# EAGLE library part ADC083000 (library NaSem_ADCs)
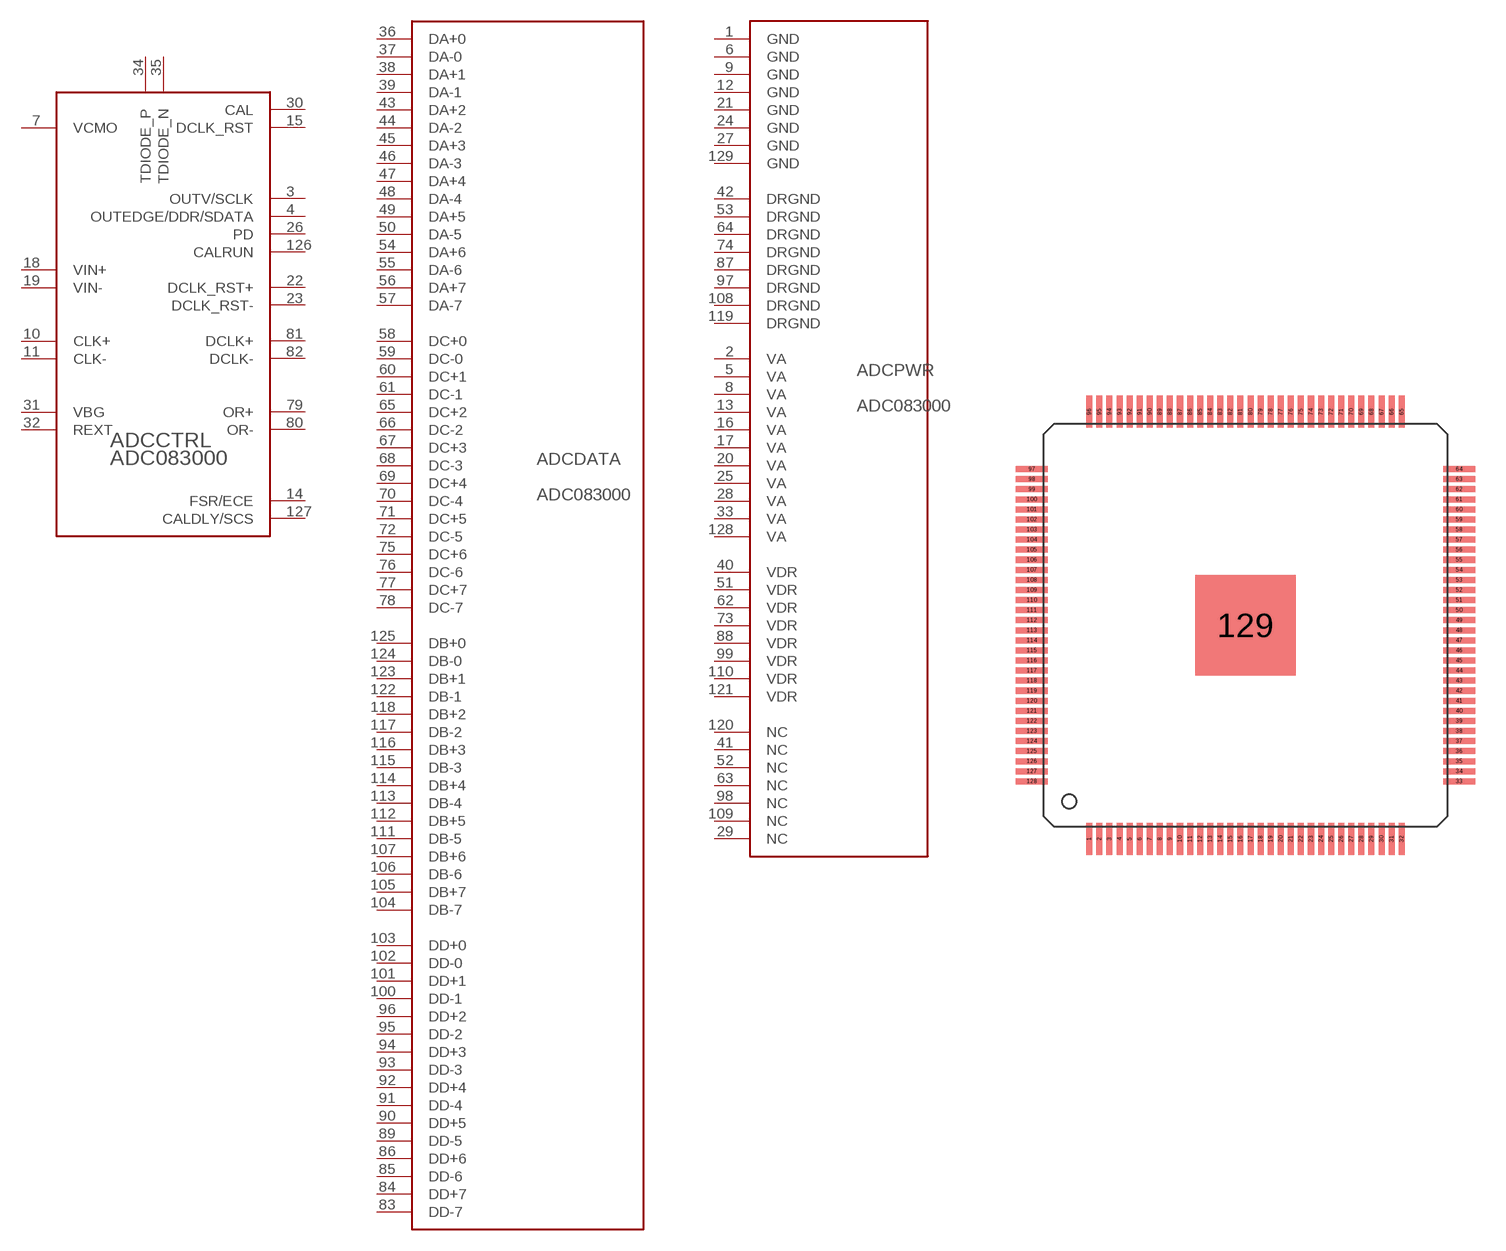
[diagram p0: symbol with the pads of LQFP-128; footprint LQFP-128]

Designator prefix ADC; gates CTRL=ADC083000_CLK DATA=ADC083000_CTR_DATA PWR=ADC083000_PS

## ADC083000  [LQFP-128]
1  PWR:GND  pwr
2  PWR:VA  pwr
3  CTRL:OUTV/SCLK  in
4  CTRL:OUTEDGE/DDR/SDATA  in
5  PWR:VA  pwr
6  PWR:GND  pwr
7  CTRL:VCMO  out
8  PWR:VA  pwr
9  PWR:GND  pwr
10  CTRL:CLK+  in
11  CTRL:CLK-  in
12  PWR:GND  pwr
13  PWR:VA  pwr
14  CTRL:FSR/ECE  in
15  CTRL:DCLK_RST  in
16  PWR:VA  pwr
17  PWR:VA  pwr
18  CTRL:VIN+  in
19  CTRL:VIN-  in
20  PWR:VA  pwr
21  PWR:GND  pwr
22  CTRL:DCLK_RST+  in
23  CTRL:DCLK_RST-  in
24  PWR:GND  pwr
25  PWR:VA  pwr
26  CTRL:PD  in
27  PWR:GND  pwr
28  PWR:VA  pwr
29  PWR:NC  pwr
30  CTRL:CAL  in
31  CTRL:VBG  out
32  CTRL:REXT  pas
33  PWR:VA  pwr
34  CTRL:TDIODE_P  pas
35  CTRL:TDIODE_N  pas
36  DATA:DA+0  out
37  DATA:DA-0  out
38  DATA:DA+1  out
39  DATA:DA-1  out
40  PWR:VDR
41  PWR:NC  nc
42  PWR:DRGND  pwr
43  DATA:DA+2  out
44  DATA:DA-2  out
45  DATA:DA+3  out
46  DATA:DA-3  out
47  DATA:DA+4  out
48  DATA:DA-4  out
49  DATA:DA+5  out
50  DATA:DA-5  out
51  PWR:VDR
52  PWR:NC  nc
53  PWR:DRGND  pwr
54  DATA:DA+6  out
55  DATA:DA-6  out
56  DATA:DA+7  out
57  DATA:DA-7  out
58  DATA:DC+0  out
59  DATA:DC-0  out
60  DATA:DC+1  out
61  DATA:DC-1  out
62  PWR:VDR
63  PWR:NC  nc
64  PWR:DRGND  pwr
65  DATA:DC+2  out
66  DATA:DC-2  out
67  DATA:DC+3  out
68  DATA:DC-3  out
69  DATA:DC+4  out
70  DATA:DC-4  out
71  DATA:DC+5  out
72  DATA:DC-5  out
73  PWR:VDR
74  PWR:DRGND  pwr
75  DATA:DC+6  out
76  DATA:DC-6  out
77  DATA:DC+7  out
78  DATA:DC-7  out
79  CTRL:OR+  out
80  CTRL:OR-  out
81  CTRL:DCLK+  out
82  CTRL:DCLK-  out
83  DATA:DD-7  out
84  DATA:DD+7  out
85  DATA:DD-6  out
86  DATA:DD+6  out
87  PWR:DRGND  pwr
88  PWR:VDR
89  DATA:DD-5  out
90  DATA:DD+5  out
91  DATA:DD-4  out
92  DATA:DD+4  out
93  DATA:DD-3  out
94  DATA:DD+3  out
95  DATA:DD-2  out
96  DATA:DD+2  out
97  PWR:DRGND  pwr
98  PWR:NC  nc
99  PWR:VDR
100  DATA:DD-1  out
101  DATA:DD+1  out
102  DATA:DD-0  out
103  DATA:DD+0  out
104  DATA:DB-7  out
105  DATA:DB+7  out
106  DATA:DB-6  out
107  DATA:DB+6  out
108  PWR:DRGND  pwr
109  PWR:NC  nc
110  PWR:VDR
111  DATA:DB-5  out
112  DATA:DB+5  out
113  DATA:DB-4  out
114  DATA:DB+4  out
115  DATA:DB-3  out
116  DATA:DB+3  out
117  DATA:DB-2  out
118  DATA:DB+2  out
119  PWR:DRGND  pwr
120  PWR:NC  nc
121  PWR:VDR
122  DATA:DB-1  out
123  DATA:DB+1  out
124  DATA:DB-0  out
125  DATA:DB+0  out
126  CTRL:CALRUN  out
127  CTRL:CALDLY/SCS  in
128  PWR:VA  pwr
129  PWR:GND  pwr

## Footprint LQFP-128 (pad centres in mm)
128-Lead Exposed Pad LQFP
smd 0.3 x 1.6: 1 -7.75,-10.6; 2 -7.25,-10.6; 3 -6.75,-10.6; 4 -6.25,-10.6; 5 -5.75,-10.6; 6 -5.25,-10.6; 7 -4.75,-10.6; 8 -4.25,-10.6; 9 -3.75,-10.6; 10 -3.25,-10.6; 11 -2.75,-10.6; 12 -2.25,-10.6; 13 -1.75,-10.6; 14 -1.25,-10.6; 15 -0.75,-10.6; 16 -0.25,-10.6; 17 0.25,-10.6; 18 0.75,-10.6; 19 1.25,-10.6; 20 1.75,-10.6; 21 2.25,-10.6; 22 2.75,-10.6; 23 3.25,-10.6; 24 3.75,-10.6; 25 4.25,-10.6; 26 4.75,-10.6; 27 5.25,-10.6; 28 5.75,-10.6; 29 6.25,-10.6; 30 6.75,-10.6; 31 7.25,-10.6; 32 7.75,-10.6; 65 7.75,10.6; 66 7.25,10.6; 67 6.75,10.6; 68 6.25,10.6; 69 5.75,10.6; 70 5.25,10.6; 71 4.75,10.6; 72 4.25,10.6; 73 3.75,10.6; 74 3.25,10.6; 75 2.75,10.6; 76 2.25,10.6; 77 1.75,10.6; 78 1.25,10.6; 79 0.75,10.6; 80 0.25,10.6; 81 -0.25,10.6; 82 -0.75,10.6; 83 -1.25,10.6; 84 -1.75,10.6; 85 -2.25,10.6; 86 -2.75,10.6; 87 -3.25,10.6; 88 -3.75,10.6; 89 -4.25,10.6; 90 -4.75,10.6; 91 -5.25,10.6; 92 -5.75,10.6; 93 -6.25,10.6; 94 -6.75,10.6; 95 -7.25,10.6; 96 -7.75,10.6
smd 1.6 x 0.3: 33 10.6,-7.75; 34 10.6,-7.25; 35 10.6,-6.75; 36 10.6,-6.25; 37 10.6,-5.75; 38 10.6,-5.25; 39 10.6,-4.75; 40 10.6,-4.25; 41 10.6,-3.75; 42 10.6,-3.25; 43 10.6,-2.75; 44 10.6,-2.25; 45 10.6,-1.75; 46 10.6,-1.25; 47 10.6,-0.75; 48 10.6,-0.25; 49 10.6,0.25; 50 10.6,0.75; 51 10.6,1.25; 52 10.6,1.75; 53 10.6,2.25; 54 10.6,2.75; 55 10.6,3.25; 56 10.6,3.75; 57 10.6,4.25; 58 10.6,4.75; 59 10.6,5.25; 60 10.6,5.75; 61 10.6,6.25; 62 10.6,6.75; 63 10.6,7.25; 64 10.6,7.75; 97 -10.6,7.75; 98 -10.6,7.25; 99 -10.6,6.75; 100 -10.6,6.25; 101 -10.6,5.75; 102 -10.6,5.25; 103 -10.6,4.75; 104 -10.6,4.25; 105 -10.6,3.75; 106 -10.6,3.25; 107 -10.6,2.75; 108 -10.6,2.25; 109 -10.6,1.75; 110 -10.6,1.25; 111 -10.6,0.75; 112 -10.6,0.25; 113 -10.6,-0.25; 114 -10.6,-0.75; 115 -10.6,-1.25; 116 -10.6,-1.75; 117 -10.6,-2.25; 118 -10.6,-2.75; 119 -10.6,-3.25; 120 -10.6,-3.75; 121 -10.6,-4.25; 122 -10.6,-4.75; 123 -10.6,-5.25; 124 -10.6,-5.75; 125 -10.6,-6.25; 126 -10.6,-6.75; 127 -10.6,-7.25; 128 -10.6,-7.75
smd 5 x 5: 129 0,0